# EAGLE library part ADG619 (library analog-devices)
IC SWITCH SPDT
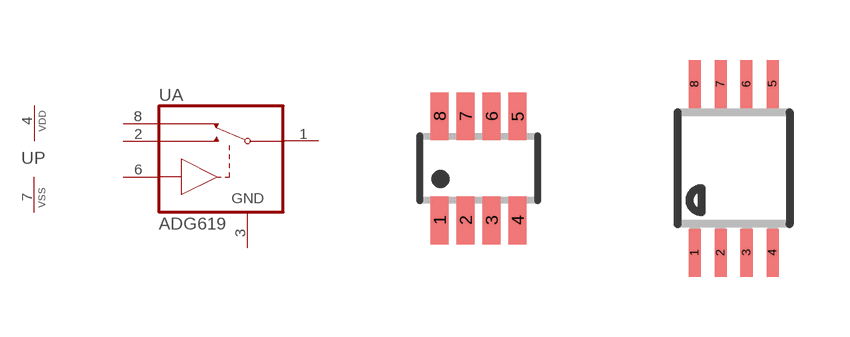
[diagram p80: symbol with the pads of SOT23-8; footprints SOT23-8, MSOP08]

Designator prefix U; gates A=ADG619 P=PWRN_VDDVSS

## ADG619RJ  [SOT23-8]
1  A:D  pas
2  A:S1  pas
3  A:GND  in
4  P:VDD  pwr
6  A:IN  in
7  P:VSS  pwr
8  A:S2  pas

## ADG619RM  [MSOP08]
Pads as for SOT23-8

## Footprint SOT23-8 (pad centres in mm)
SOT-23 - DCN 0.65 mm pitch
smd 0.45 x 1.2: 1 -0.975,-1.3; 2 -0.325,-1.3; 3 0.325,-1.3; 4 0.975,-1.3; 5 0.975,1.3; 6 0.325,1.3; 7 -0.325,1.3; 8 -0.975,1.3

## Footprint MSOP08 (pad centres in mm)
Mini Small Outline Package
smd 0.3 x 1.2: 1 -0.975,-2.113; 2 -0.325,-2.113; 3 0.325,-2.113; 4 0.975,-2.113; 5 0.975,2.112; 6 0.324,2.112; 7 -0.325,2.112; 8 -0.975,2.112